# Altium footprint library PPs.PcbLib: 32 footprints (part 2 of 2)
Each footprint in its own frame and in the unit in brackets; x right, y up, seen from the top. Pads: shape width x height; smd on the part's side, far side on the other; paste and mask are expansions set on the pad; w line width, h text height; cw(c..) or ccw(c..) is an arc to the next point about the centre after c.
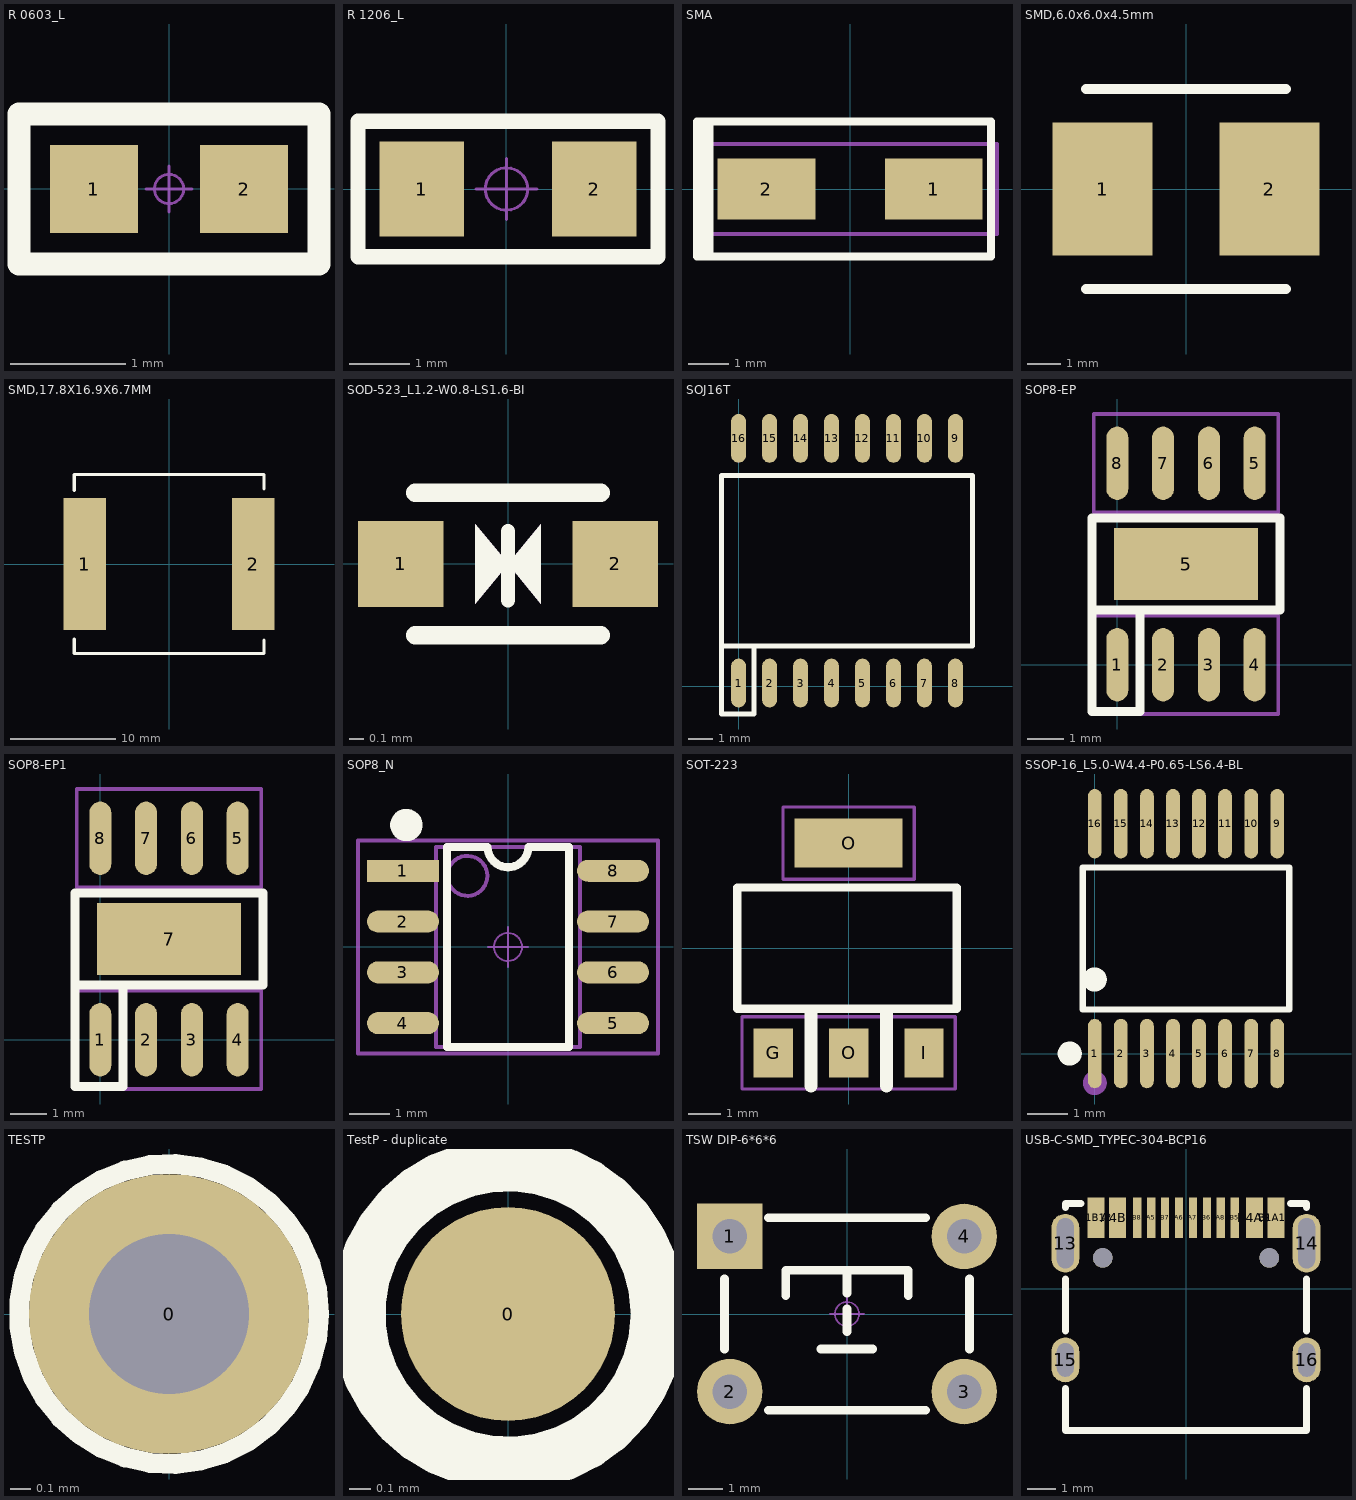
[diagram p1: the footprints below, top view; thin cyan lines are the x and y axes]

## R 0603_L [mil]
pads (2):
  rect 30x30 smd: 1(-25.59,0) 2(25.59,0)
Top Overlay:
  lines w8: -51.18,-25.59 -51.18,25.59 51.18,25.59 51.18,-25.59 -51.18,-25.59
Mechanical 15:
  circle w1: c0,0 r5
  lines w1: -7.87,0 7.87,0 ; 0,-7.87 0,7.87
3D body "R 0603.STEP": height 15.79, standoff -0.13, extent -31.49,-15.74 31.5,15.75

## R 1206_L [mil]
height 43.31
pads (2):
  rect 55x62 smd: 1(-55.12,0) 2(57.09,0)
Top Overlay:
  lines w10: -96.46,-44 -96.46,44 98.43,44 98.43,-44 -96.46,-44
Mechanical 15:
  circle w1.97: c0,0 r13.78
  lines w1.97: -19.68,0 19.68,0 ; 0,-19.68 0,19.68
3D body "R 1206.STEP": height 21.69, standoff -0.24, extent -62.99,-31.49 63,31.5

## SMA [mm]
height 2.3
pads (2):
  rect 2.4x1.5 smd: 1(2.05,0) 2(-2.05,0)
Top Overlay:
  region: -3.451,1.65 -3.751,1.65 -3.751,-1.65 -3.451,-1.65
  lines w0.2: -3.45,-1.65 -3.45,1.65 ; -3.75,-1.65 3.45,-1.65 3.45,1.65 -3.75,1.65 -3.75,-1.65
Mechanical 15:
  lines w0.1: -3.6,-1.1 3.6,-1.1 3.6,1.1 -3.6,1.1 -3.6,-1.1

## SMD,6.0x6.0x4.5mm [mm] "200530870020"
height 3
pads (2):
  rect 3x4 smd: 1(-2.5,0) 2(2.5,0)
Top Overlay:
  lines w0.3: -3,-3 3,-3 ; -3,3 3,3

## SMD,17.8X16.9X6.7MM [mm] "200530870020"
height 3
pads (2):
  rect 4x12.5 smd: 1(-8,0) 2(8,0)
Top Overlay:
  lines w0.2: -9,-8.5 9,-8.5 ; -9,8.5 9,8.5
  lines w0.3: -9,-8.5 -9,-7.129 ; -9,7.002 -9,8.5 9,8.5 9.017,8.483 9.017,7.112 ; -8.89,-8.5 9,-8.5 9.017,-8.483 9.017,-7.239

## SOD-523_L1.2-W0.8-LS1.6-BI [mm]
pads (2):
  rect 0.6x0.6 smd: 1(-0.75,0) 2(0.75,0)
Top Overlay:
  region: 0,0 0.229,0.279 0.229,-0.279
  region: 0,0 -0.229,-0.279 -0.229,0.279
  lines w0.1: 0,-0.254 0,0.229
  lines w0.13: -0.65,-0.5 0.65,-0.5 ; -0.65,0.5 0.65,0.5
Mechanical 15:
  region: -0.229,0.279 -0.229,-0.279 0,0
  region: 0.229,0.279 0.229,-0.279 0,0

## SOJ16T [mil]
height 104.33
pads (16):
  oval 24x78.74 smd: 1(0,5) 2(50,5) 3(100,5) 4(150,5) 5(200,5) 6(250,5) 7(300,5) 8(350,5) 9(350,400) 10(300,400) 11(250,400) 12(200,400) 13(150,400) 14(100,400) 15(50,400) 16(0,400)
Top Overlay:
  lines w7.87: -27.56,65 377.56,65 377.56,340 -27.56,340 -27.56,-45 25,-45 25,65
Mechanical 15:
  lines w3.94: -25.78,63.78 375.78,63.78 ; -25.78,342.22 375.78,342.22

## SOP8-EP [mil]
height 59.06
pads (9):
  oval 24x80 smd: 1(0,0) 2(50,0) 3(100,0) 4(150,0) 5(150,220) 6(100,220) 7(50,220) 8(0,220)
  rect 157.48x78.74 smd: 5(75,110)
Top Overlay:
  lines w9.84: -27.56,60 177.56,60 177.56,160 -27.56,160 -27.56,-51.18 25,-51.18 25,60
Mechanical 15:
  lines w3.94: -25.78,-53.78 175.78,-53.78 175.78,53.78 -25.78,53.78 -25.78,-53.82 ; -25.78,166.22 175.78,166.22 175.78,273.82 -25.78,273.78 -25.78,166.22

## SOP8-EP1 [mil]
height 59.06
pads (9):
  oval 24x80 smd: 1(0,0) 2(50,0) 3(100,0) 4(150,0) 5(150,220) 6(100,220) 7(50,220) 8(0,220)
  rect 157.48x78.74 smd: 7(75,110)
Top Overlay:
  lines w9.84: -27.56,60 177.56,60 177.56,160 -27.56,160 -27.56,-51.18 25,-51.18 25,60
Mechanical 15:
  lines w3.94: -25.78,-53.78 175.78,-53.78 175.78,53.78 -25.78,53.78 -25.78,-53.82 ; -25.78,166.22 175.78,166.22 175.78,273.82 -25.78,273.78 -25.78,166.22

## SOP8_N [mm]
height 1.75
pads (8):
  rect 1.8x0.55 smd: 1(-2.625,1.905)
  oval 1.8x0.55 smd: 2(-2.625,0.635) 3(-2.625,-0.635) 4(-2.625,-1.905) 5(2.625,-1.905) 6(2.625,-0.635) 7(2.625,0.635) 8(2.625,1.905)
Top Overlay:
  circle w0.5: c-2.54,3.048 r0.155
  lines w0.2: -1.524,2.5 -1.524,-2.5 1.524,-2.5 1.524,2.5
  lines w0.203: -1.524,2.5 -0.508,2.5 ccw(c0,2.5) 0,1.992 ccw(c0,2.5) 0.508,2.5 1.524,2.5
Mechanical 13:
  circle w0.1: c-1.016,1.778 r0.5
  lines w0.1: -1.8,-2.5 1.8,-2.5 1.8,2.5 -1.8,2.5 -1.8,-2.5
Mechanical 15:
  circle w0.05: c0,0 r0.35
  lines w0.05: -0.5,0 0.5,0 ; 0,-0.5 0,0.5
  lines w0.1: -3.75,-2.667 -3.75,2.667 3.75,2.667 3.75,-2.667 -3.75,-2.667
3D body "SOP8.STEP": height 1.9, standoff 0, extent -3.003,-2.5 3.003,2.5

## SOT-223 [mm]
height 1.1
pads (4):
  rect 1.2x1.5 smd: G(-2.297,-3.2) I(2.303,-3.2) O(0.003,-3.2)
  rect 3.3x1.5 smd: O(0.003,3.2)
Top Overlay:
  lines w0.25: -3.397,-1.85 -3.397,1.85 3.303,1.85 3.303,-1.85 -3.397,-1.85
  lines w0.4: -1.147,-4.2 -1.147,-2 ; 1.153,-4.2 1.153,-2
Mechanical 15:
  lines w0.1: -3.247,-4.3 -3.247,-2.1 3.253,-2.1 3.253,-4.3 -3.247,-4.3 ; -1.997,2.1 -1.997,4.3 2.003,4.3 2.003,2.1 -1.997,2.1

## SSOP-16_L5.0-W4.4-P0.65-LS6.4-BL [mm]
pads (16):
  oval 0.343x1.731 smd: 1(0,0) 2(0.65,0) 3(1.3,0) 4(1.95,0) 5(2.6,0) 6(3.25,0) 7(3.9,0) 8(4.55,0) 9(4.55,5.732) 10(3.9,5.732) 11(3.25,5.732) 12(2.6,5.732) 13(1.95,5.732) 14(1.3,5.732) 15(0.65,5.732) 16(0,5.732)
Top Overlay:
  circle w0.3: c-0.624,0 r0.15
  circle w0.3: c0,1.847 r0.15
  lines w0.152: -0.301,1.094 -0.301,4.637 4.851,4.637 4.851,1.094 -0.301,1.094
Mechanical 15:
  circle w0.3: c0,-0.734 r0.15

## TESTP [mm]
pads (1):
  round 1.4 hole 0.8: 0(0,0)
Top Overlay:
  circle w0.1: c0,0 r0.75

## TestP - duplicate [mm]
pads (1):
  round 1 smd: 0(0,0)
Top Overlay:
  circle w0.254: c0,0 r0.7

## TSW DIP-6*6*6 [mm]
pads (4):
  rect 1.9x1.9 hole 1: 1(-3.4,2.25)
  round 1.9 hole 1: 2(-3.4,-2.25) 3(3.4,-2.25) 4(3.4,2.25)
Top Overlay:
  lines w0.254: -3.556,-1.016 -3.556,1.016 ; -2.286,-2.794 2.286,-2.794 ; -2.286,2.794 2.286,2.794 ; -1.778,0.533 -1.778,1.27 1.778,1.27 1.778,0.533 ; -0.762,-1.016 0.737,-1.016 ; 0,-0.508 0,0.152 ; 0,0.61 0,1.27 ; 3.556,-1.016 3.556,1.016
Bottom Overlay:
  lines w0.254: -2.286,-2.286 2.286,-2.286 ; -2.286,2.286 2.286,2.286
Mechanical 15:
  circle w0.05: c0,0 r0.35
  lines w0.05: -0.5,0 0.5,0 ; 0,-0.5 0,0.5
3D body "TSW DIP-6x6x6.STEP": height 5.95, standoff -3.45, extent -4.106,-3 4.106,3

## USB-C-SMD_TYPEC-304-BCP16 [mm]
pads (18):
  oval 1x2.1 hole 0.6 slot 1.8 at 90 deg: 13(-4.32,1.633) 14(4.32,1.633)
  oval 1x1.6 hole 0.6 slot 1.2 at 90 deg: 15(-4.32,-2.547) 16(4.32,-2.547)
  rect 0.6x1.45 smd: A1B12(-3.225,2.547) A4B9(-2.45,2.547) B1A12(3.22,2.547) B4A9(2.45,2.547)
  rect 0.3x1.45 smd: A5(-1.25,2.547) A6(-0.25,2.547) A7(0.25,2.547) A8(1.25,2.547) B5(1.75,2.547) B6(0.75,2.547) B7(-0.75,2.547) B8(-1.75,2.547)
  round 0.7 hole 0.7 unplated: ""(-2.98,1.102) ""(2.98,1.102)
Top Overlay:
  lines w0.254: -4.318,-3.579 -4.318,-5.08 4.318,-5.08 4.318,-3.579 ; -4.318,-1.516 -4.318,0.351 ; -4.318,2.914 -4.318,3.048 -3.756,3.048 ; 3.751,3.048 4.318,3.048 4.318,2.914 ; 4.318,-1.516 4.318,0.351